# Altium schematic symbol library 1x2.SchLib: 2 symbols
Pins are listed as number, name and electrical type; pins without a type are passive.

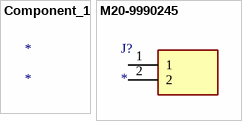
[diagram p0: symbols Component_1 to M20-9990245]

## Component_1
designator *

## M20-9990245
designator J?
Connector; Manufacturer_Name: Harwin; Manufacturer_Part_Number: M20-9990245; Datasheet Link: https://componentsearchengine.com//M20-9990245.pdf; Height: 8.64mm; Mouser2 Part Number: 855-M20-9990245; Mouser2 Price/Stock: https://www.mouser.com/Search/Refine.aspx?Keyword=855-M20-9990245
footprint HDRV2W64P0X254_1X2_508X254X864P
pins: 1, 2